# Altium footprint library DO-214AC-3.PcbLib: 1 footprints
Each footprint in its own frame and in the unit in brackets; x right, y up, seen from the top. Pads: shape width x height; smd on the part's side, far side on the other; paste and mask are expansions set on the pad; w line width, h text height; cw(c..) or ccw(c..) is an arc to the next point about the centre after c.
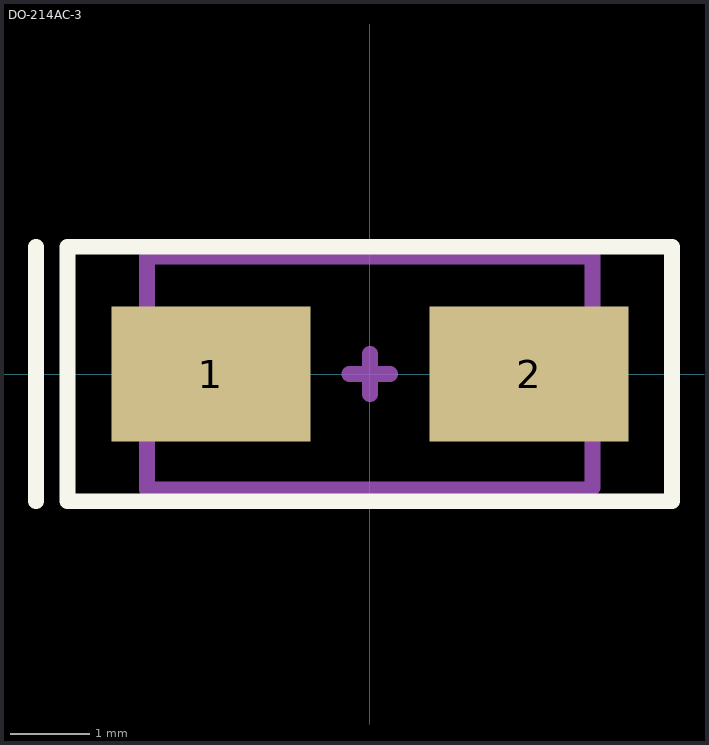
[diagram p0: the footprint, top view; thin cyan lines are the x and y axes]

## DO-214AC-3 [mm] "Based on RS1K-13-F"
pads (2):
  rect 2.5x1.7 smd: 1(-2,0) 2(2,0)
Top Overlay:
  lines w0.2: -4.2,-1.6 -4.2,1.6 ; -3.8,-1.6 3.8,-1.6 3.8,1.6 1.325,1.6 -2.425,1.6 -3.8,1.6 -3.8,-1.6
Mechanical 13:
  lines w0.2: -2.8,-1.45 -2.8,1.475 2.8,1.475 2.8,-1.425 2.775,-1.45 -2.8,-1.45
Mechanical 15:
  lines w0.2: -0.254,0 0.254,0 0,0 0,0.254 0,-0.254
3D body "SMA_DIO.step": height 2.35, standoff 0, extent -2.795,-1.46 2.795,1.46